# EAGLE library part CY8C9540A (library libredaq-comps)
The CY8C95xxA is a multi-port I/O expander with on board user available EEPROM and several PWM outputs. All devices in this family operate identically but differ in I/O pins, number of PWMs, and internal EEPROM size.
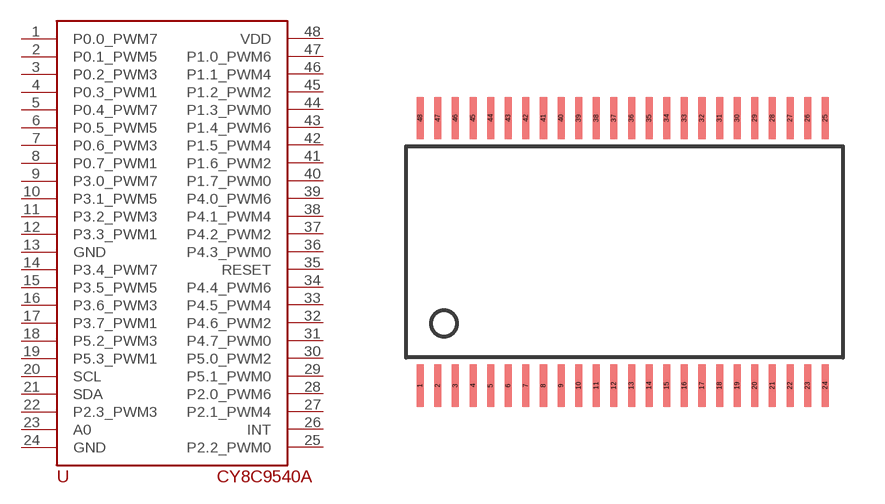
[diagram p10: symbol with the pads of SSOP-48; footprint SSOP-48]

Designator prefix U

## CY8C9540A  [SSOP-48]
1  P0.0_PWM7
2  P0.1_PWM5
3  P0.2_PWM3
4  P0.3_PWM1
5  P0.4_PWM7
6  P0.5_PWM5
7  P0.6_PWM3
8  P0.7_PWM1
9  P3.0_PWM7
10  P3.1_PWM5
11  P3.2_PWM3
12  P3.3_PWM1
13  GND
14  P3.4_PWM7
15  P3.5_PWM5
16  P3.6_PWM3
17  P3.7_PWM1
18  P5.2_PWM3
19  P5.3_PWM1
20  SCL
21  SDA
22  P2.3_PWM3
23  A0
24  GND
25  P2.2_PWM0
26  INT
27  P2.1_PWM4
28  P2.0_PWM6
29  P5.1_PWM0
30  P5.0_PWM2
31  P4.7_PWM0
32  P4.6_PWM2
33  P4.5_PWM4
34  P4.4_PWM6
35  RESET
36  P4.3_PWM0
37  P4.2_PWM2
38  P4.1_PWM4
39  P4.0_PWM6
40  P1.7_PWM0
41  P1.6_PWM2
42  P1.5_PWM4
43  P1.4_PWM6
44  P1.3_PWM0
45  P1.2_PWM2
46  P1.1_PWM4
47  P1.0_PWM6
48  VDD

## Footprint SSOP-48 (pad centres in mm)
SSOP 28
smd 0.254 x 1.524: 1 0,-4.826; 2 0.635,-4.826; 3 1.27,-4.826; 4 1.905,-4.826; 5 2.54,-4.826; 6 3.175,-4.826; 7 3.81,-4.826; 8 4.445,-4.826; 9 5.08,-4.826; 10 5.715,-4.826; 11 6.35,-4.826; 12 6.985,-4.826; 13 7.62,-4.826; 14 8.255,-4.826; 15 8.89,-4.826; 16 9.525,-4.826; 17 10.16,-4.826; 18 10.795,-4.826; 19 11.43,-4.826; 20 12.065,-4.826; 21 12.7,-4.826; 22 13.335,-4.826; 23 13.97,-4.826; 24 14.605,-4.826; 25 14.605,4.826; 26 13.97,4.826; 27 13.335,4.826; 28 12.7,4.826; 29 12.065,4.826; 30 11.43,4.826; 31 10.795,4.826; 32 10.16,4.826; 33 9.525,4.826; 34 8.89,4.826; 35 8.255,4.826; 36 7.62,4.826; 37 6.985,4.826; 38 6.35,4.826; 39 5.715,4.826; 40 5.08,4.826; 41 4.445,4.826; 42 3.81,4.826; 43 3.175,4.826; 44 2.54,4.826; 45 1.905,4.826; 46 1.27,4.826; 47 0.635,4.826; 48 0,4.826